# EAGLE library part DG308-J (library joakim)
DG308 Quad SPST normally open
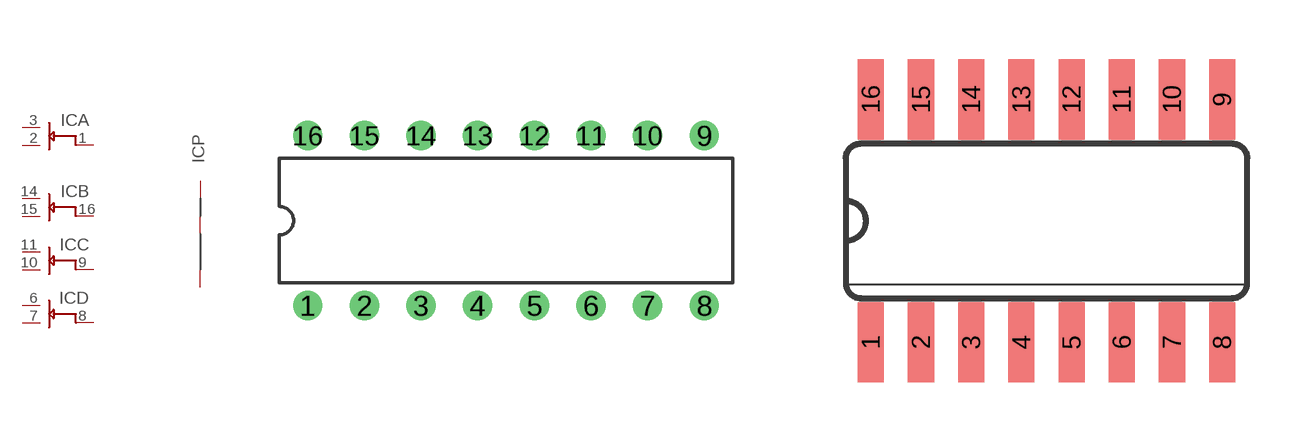
[diagram p54: symbol with the pads of DIL16J; footprints DIL16J, SO16J]

Designator prefix IC; gates A=DG308-J B=DG308-J C=DG308-J D=DG308-J P=XM8-PWR

## DG308-JP  [DIL16J]
1  A:C
2  A:D
3  A:S
4  P:-15V  pwr
5  P:AGND  pwr
6  D:S
7  D:D
8  D:C
9  C:C
10  C:D
11  C:S
13  P:+15V  pwr
14  B:S
15  B:D
16  B:C

## DG308-JS  [SO16J]
Pads as for DIL16J

## Footprint DIL16J (pad centres in mm)
Dual In Line 16
drill 0.813: 1 -8.89,-3.81; 2 -6.35,-3.81; 3 -3.81,-3.81; 4 -1.27,-3.81; 5 1.27,-3.81; 6 3.81,-3.81; 7 6.35,-3.81; 8 8.89,-3.81; 9 8.89,3.81; 10 6.35,3.81; 11 3.81,3.81; 12 1.27,3.81; 13 -1.27,3.81; 14 -3.81,3.81; 15 -6.35,3.81; 16 -8.89,3.81

## Footprint SO16J (pad centres in mm)
Small Outline Package 16
smd 0.66 x 2.032: 1 -4.445,-3.073; 2 -3.175,-3.073; 3 -1.905,-3.073; 4 -0.635,-3.073; 5 0.635,-3.073; 6 1.905,-3.073; 7 3.175,-3.073; 8 4.445,-3.073; 9 4.445,3.073; 10 3.175,3.073; 11 1.905,3.073; 12 0.635,3.073; 13 -0.635,3.073; 14 -1.905,3.073; 15 -3.175,3.073; 16 -4.445,3.073